# Altium footprint library 0679L0500-01.PcbLib: 1 footprints
Each footprint in its own frame and in the unit in brackets; x right, y up, seen from the top. Pads: shape width x height; smd on the part's side, far side on the other; paste and mask are expansions set on the pad; w line width, h text height; cw(c..) or ccw(c..) is an arc to the next point about the centre after c.
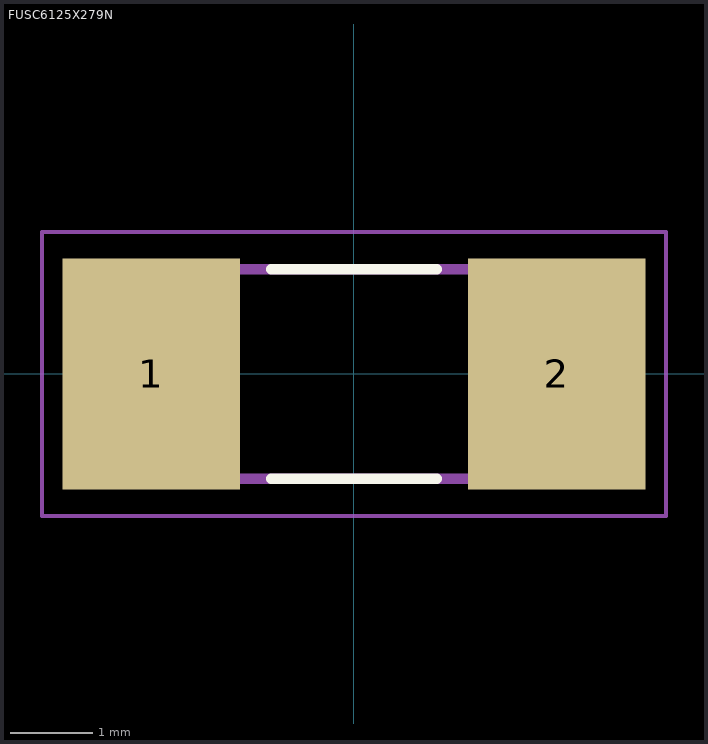
[diagram p0: the footprint, top view; thin cyan lines are the x and y axes]

## FUSC6125X279N [mm]
pads (2):
  rect 2.15x2.8 smd: 1(-2.455,0) 2(2.455,0)
Top Overlay:
  lines w0.127: -1,-1.27 1,-1.27 ; -1,1.27 1,1.27
Mechanical 13:
  lines w0.127: -3.05,-1.27 3.05,-1.27 3.05,1.27 -3.05,1.27 -3.05,-1.27
Mechanical 15:
  lines w0.05: -3.78,-1.72 -3.78,1.72 3.78,1.72 3.78,-1.72 -3.78,-1.72
3D body "step_temp.STEP": height 2.79, standoff 0, extent -3.05,-1.27 3.05,1.27